# Altium footprint library LED_3mm_GREEN.PcbLib: 1 footprints
Each footprint in its own frame and in the unit in brackets; x right, y up, seen from the top. Pads: shape width x height; smd on the part's side, far side on the other; paste and mask are expansions set on the pad; w line width, h text height; cw(c..) or ccw(c..) is an arc to the next point about the centre after c.
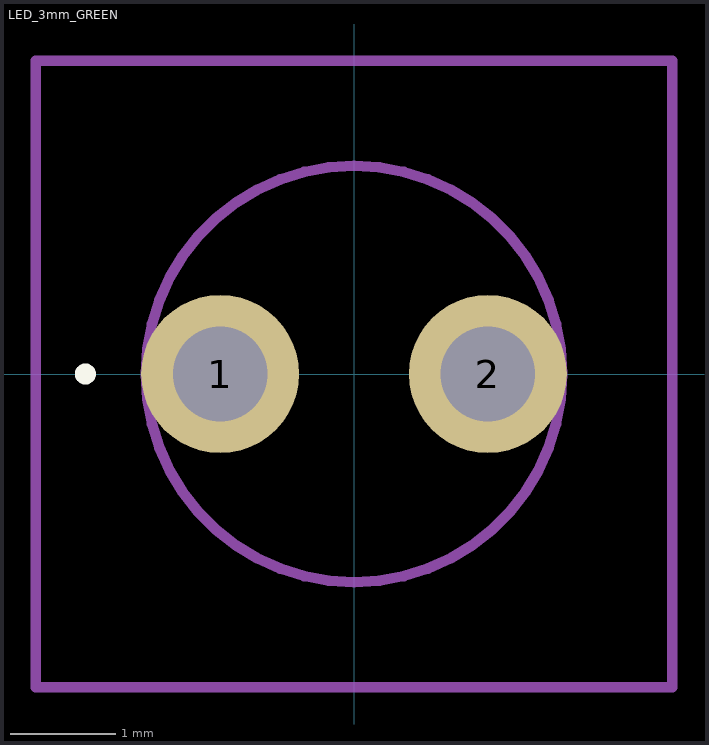
[diagram p0: the footprint, top view; thin cyan lines are the x and y axes]

## LED_3mm_GREEN [mm]
pads (2):
  round 1.5 hole 0.9: 1(-1.27,0) 2(1.27,0)
Top Overlay:
  lines w0.1: -2.6,0 cw(c-2.55,0) -2.5,0 cw(c-2.55,0) -2.6,0
Mechanical 15:
  lines w0.1: 0,-1.975 ccw(c0,0) 0,1.975 ccw(c0,0) 0,-1.975
Mechanical 20:
  lines w0.1: -3.02,-2.975 -3.02,2.975 3.02,2.975 3.02,-2.975 -3.02,-2.975
3D body "LED 3MM GREEN.STEP": height 12.45, standoff -7.15, extent -1.6,-1.6 1.6,1.6